# Altium schematic symbol library pyptec-Schlib_jp.SchLib: 316 symbols (part 5 of 7)
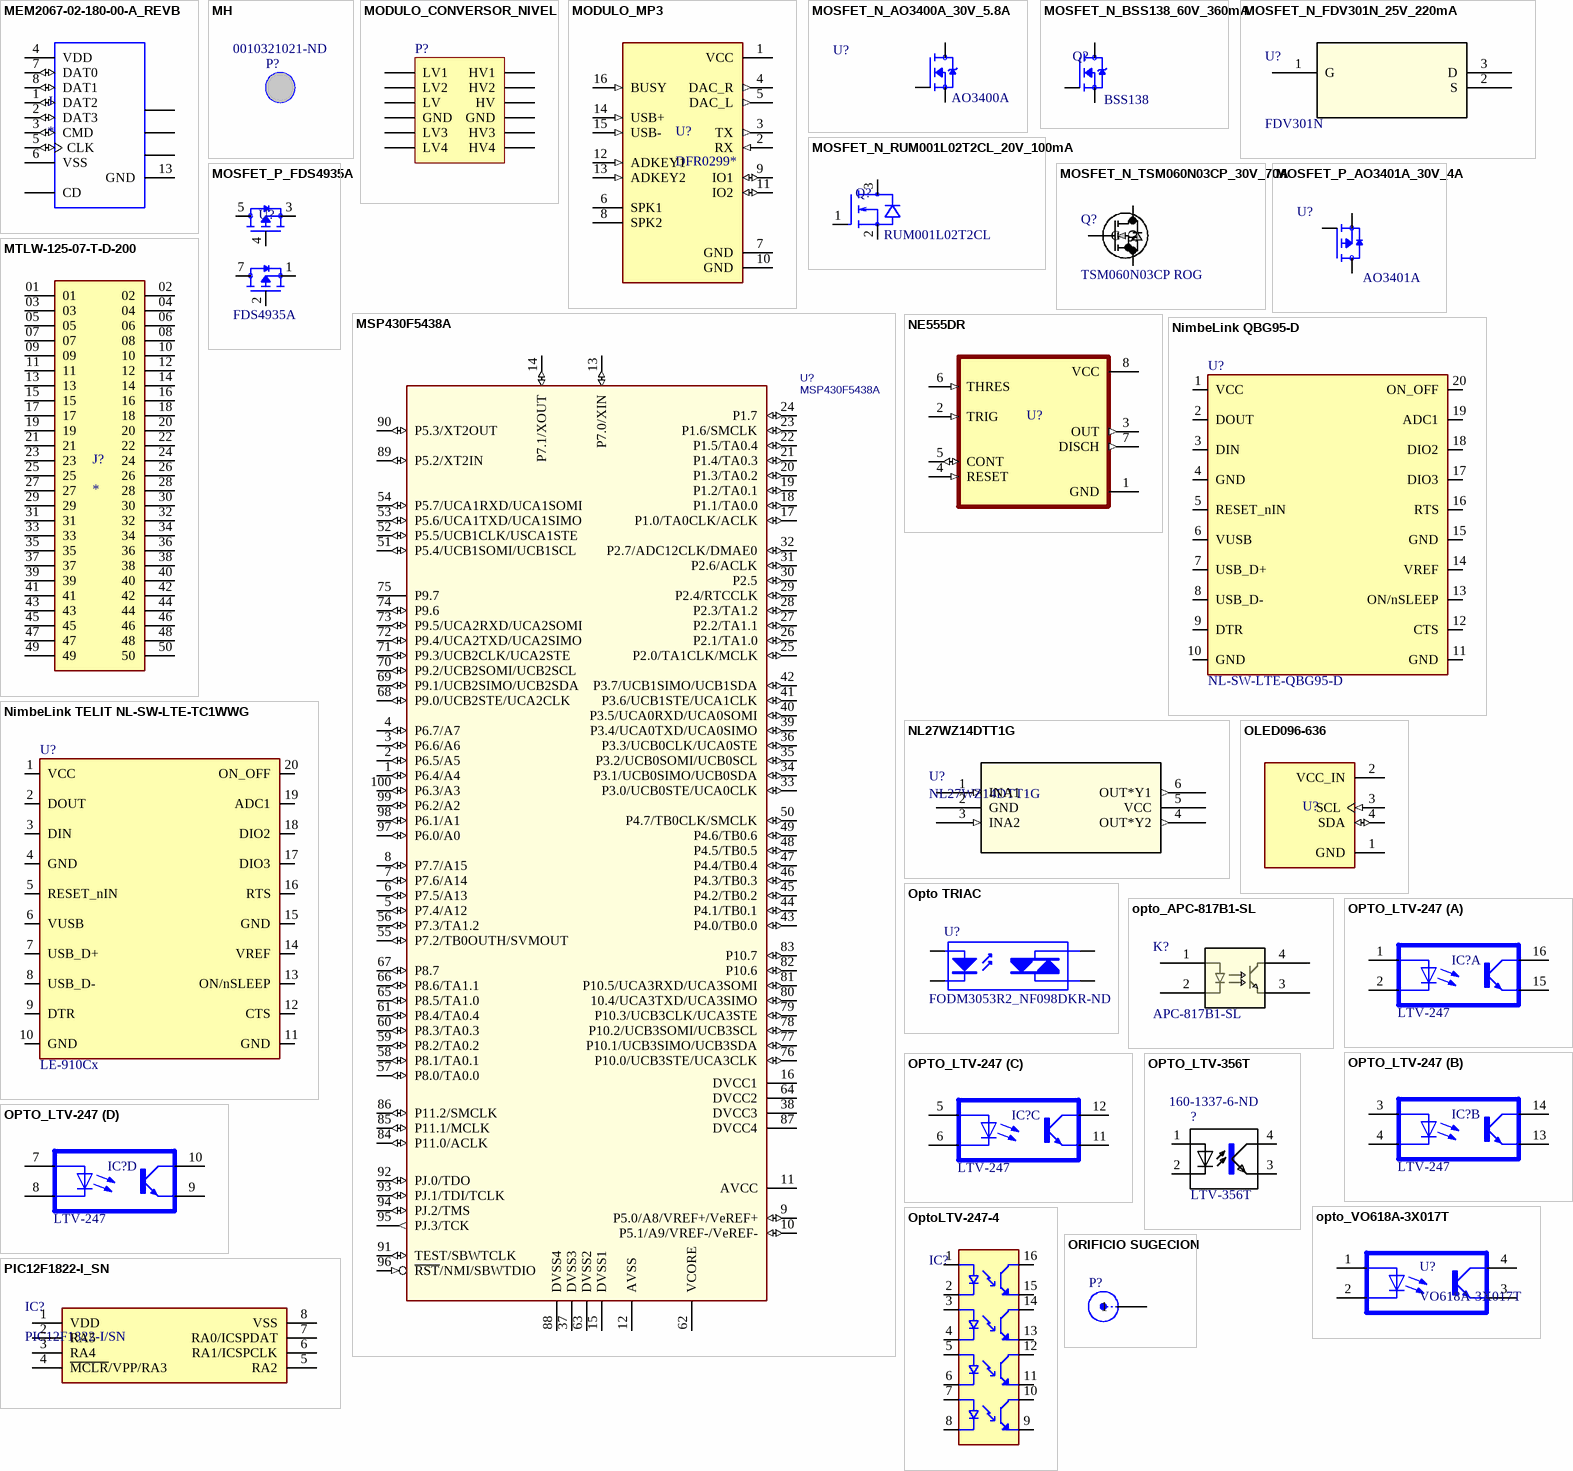
[diagram p14: symbols MEM2067-02-180-00-A_REVB to PIC12F1822-I_SN]

## MSP430F5438A
designator U?
Value: MSP430F5438A; Supplier 1: Digi-Key; Supplier Part Number 1: 296-30513-5-ND
footprint QUAD.50M/100/WG16.00_VQFP100
footprint QUAD.50M/100/WG16.00_VQFP100
pins: 1 P6.4/A4 (io), 2 P6.5/A5 (io), 3 P6.6/A6 (io), 4 P6.7/A7 (io), 5 P7.4/A12 (io), 6 P7.5/A13 (io), 7 P7.6/A14 (io), 8 P7.7/A15 (io), 9 P5.0/A8/VREF+/VeREF+ (io), 10 P5.1/A9/VREF-/VeREF- (io), 11 AVCC (power), 12 AVSS (power), 13 P7.0/XIN (io), 14 P7.1/XOUT (io), 15 DVSS1 (power), 16 DVCC1 (power), 17 P1.0/TA0CLK/ACLK (io), 18 P1.1/TA0.0 (io), 19 P1.2/TA0.1 (io), 20 P1.3/TA0.2 (io), 21 P1.4/TA0.3 (io), 22 P1.5/TA0.4 (io), 23 P1.6/SMCLK (io), 24 P1.7 (io), 25 P2.0/TA1CLK/MCLK (io), 26 P2.1/TA1.0 (io), 27 P2.2/TA1.1 (io), 28 P2.3/TA1.2 (io), 29 P2.4/RTCCLK (io), 30 P2.5 (io), 31 P2.6/ACLK (io), 32 P2.7/ADC12CLK/DMAE0 (io), 33 P3.0/UCB0STE/UCA0CLK (io), 34 P3.1/UCB0SIMO/UCB0SDA (io), 35 P3.2/UCB0SOMI/UCB0SCL (io), 36 P3.3/UCB0CLK/UCA0STE (io), 37 DVSS3 (power), 38 DVCC3 (power), 39 P3.4/UCA0TXD/UCA0SIMO (io), 40 P3.5/UCA0RXD/UCA0SOMI (io), 41 P3.6/UCB1STE/UCA1CLK (io), 42 P3.7/UCB1SIMO/UCB1SDA (io), 43 P4.0/TB0.0 (io), 44 P4.1/TB0.1 (io), 45 P4.2/TB0.2 (io), 46 P4.3/TB0.3 (io), 47 P4.4/TB0.4 (io), 48 P4.5/TB0.5 (io), 49 P4.6/TB0.6 (io), 50 P4.7/TB0CLK/SMCLK (io), 51 P5.4/UCB1SOMI/UCB1SCL (io), 52 P5.5/UCB1CLK/USCA1STE (io), 53 P5.6/UCA1TXD/UCA1SIMO (io), 54 P5.7/UCA1RXD/UCA1SOMI (io), 55 P7.2/TB0OUTH/SVMOUT (io), 56 P7.3/TA1.2 (io), 57 P8.0/TA0.0 (io), 58 P8.1/TA0.1 (io), 59 P8.2/TA0.2 (io), 60 P8.3/TA0.3 (io), 61 P8.4/TA0.4 (io), 62 VCORE (power), 63 DVSS2 (power), 64 DVCC2 (power), 65 P8.5/TA1.0 (io), 66 P8.6/TA1.1 (io), 67 P8.7 (io), 68 P9.0/UCB2STE/UCA2CLK (io), 69 P9.1/UCB2SIMO/UCB2SDA (io), 70 P9.2/UCB2SOMI/UCB2SCL (io), 71 P9.3/UCB2CLK/UCA2STE (io), 72 P9.4/UCA2TXD/UCA2SIMO (io), 73 P9.5/UCA2RXD/UCA2SOMI (io), 74 P9.6 (io), 75 P9.7, 76 P10.0/UCB3STE/UCA3CLK (io), 77 P10.1/UCB3SIMO/UCB3SDA (io), 78 P10.2/UCB3SOMI/UCB3SCL (io), 79 P10.3/UCB3CLK/UCA3STE (io), 80 10.4/UCA3TXD/UCA3SIMO (io), 81 P10.5/UCA3RXD/UCA3SOMI (io), 82 P10.6 (io), 83 P10.7 (io), 84 P11.0/ACLK (io), 85 P11.1/MCLK (io), 86 P11.2/SMCLK (io), 87 DVCC4 (power), 88 DVSS4 (power), 89 P5.2/XT2IN (io), 90 P5.3/XT2OUT (io), 91 TEST/SBWTCLK (io), 92 PJ.0/TDO (io), 93 PJ.1/TDI/TCLK (io), 94 PJ.2/TMS (io), 95 PJ.3/TCK (out), 96 ~{RST}/NMI/SBWTDIO (in), 97 P6.0/A0 (io), 98 P6.1/A1 (io), 99 P6.2/A2 (io), 100 P6.3/A3 (io)

## MTLW-125-07-T-D-200
designator J?
MP: MTLW-125-07-T-D-200; Price: None; Availability: Unavailable; Value: *; Package: None
footprint SAMTEC_MTLW-125-07-T-D-200
pins: 01, 02, 03, 04, 05, 06, 07, 08, 09, 10, 11, 12, 13, 14, 15, 16, 17, 18, 19, 20, 21, 22, 23, 24, 25, 26, 27, 28, 29, 30, 31, 32, 33, 34, 35, 36, 37, 38, 39, 40, 41, 42, 43, 44, 45, 46, 47, 48, 49, 50

## NE555DR
designator U?
555 Type, Timer/Oscillator (Single) IC 100kHz 8-SOIC; Digi_Key_Part_Number: 296-6501-1-ND; MF: {'manufacturer': u'Texas Instruments'}; Package: None; Price: 0,23; MP: NE555DR; Availability: Unavailable; ComponentLink1Description: NE555DR; ComponentLink1URL: https://www.digikey.com/en/products/detail/texas-instruments/NE555DR/372491; Link: https://www.digikey.com/en/products/detail/texas-instruments/NE555DR/372491; Value: NE555DR
footprint SOIC127P599X175-8N
pins: 1 GND (power), 2 TRIG (in), 3 OUT (out), 4 RESET (in), 5 CONT (io), 6 THRES (in), 7 DISCH (out), 8 VCC (power)

## NimbeLink QBG95-D
designator U?, comment NL-SW-LTE-QBG95-D
Celular, navegación BeiDou, Galileo, GLONASS, GNSS, GPS, GSM, LTE Módulos de transceptor RF Antena no incluida, U.FL Orificio pasante; Supplier 1: Digi-Key; Supplier 2: Digi-Key; Link: https://www.digikey.com/es/products/detail/nimbelink-llc/NL-SW-LTE-QBG95-D/21363405; Digi-Key_Part_Number: 1477-NL-SW-LTE-QBG95-D-ND; ComponentLink1Description: NL-SW-LTE-QBG95-D; ComponentLink1URL: https://www.digikey.com/es/products/detail/nimbelink-llc/NL-SW-LTE-QBG95-D/21363405; Price: 76.86
footprint NL-SW-EVDO-V, Cell module (3M, 950510-6102-AR connector)
pins: 1 VCC (power), 2 DOUT, 3 DIN, 4 GND (power), 5 RESET_nIN, 6 VUSB, 7 USB_D+, 8 USB_D-, 9 DTR, 10 GND (power), 11 GND (power), 12 CTS, 13 ON/nSLEEP, 14 VREF, 15 GND (power), 16 RTS, 17 DIO3, 18 DIO2, 19 ADC1, 20 ON_OFF

## NimbeLink TELIT NL-SW-LTE-TC1WWG
designator U?, comment LE-910Cx
Celular, navegación BeiDou, Galileo, GLONASS, GNSS, GPS, GSM, LTE Módulos de transceptor RF Antena no incluida, U.FL Orificio pasante; Value: NL-SW-LTE-TC1WWG; Link: https://www.digikey.com/en/products/detail/nimbelink-llc/NL-SW-LTE-TC1WWG/16592509?s=N4IgTCBcDaICoGECMB1FBxEBdAvkA; Digi-Key_Part_Number: 1477-NL-SW-LTE-TC1WWG-ND; Price: 113.85; ComponentLink1Description: NL-SW-LTE-TC1WWG; ComponentLink1URL: https://www.digikey.com/en/products/detail/nimbelink-llc/NL-SW-LTE-TC1WWG/16592509?s=N4IgTCBcDaICoGECMB1FBxEBdAvkA
footprint NL-SW-EVDO-V, Cell module (3M, 950510-6102-AR connector)
pins: 1 VCC (power), 2 DOUT, 3 DIN, 4 GND (power), 5 RESET_nIN, 6 VUSB, 7 USB_D+, 8 USB_D-, 9 DTR, 10 GND (power), 11 GND (power), 12 CTS, 13 ON/nSLEEP, 14 VREF, 15 GND (power), 16 RTS, 17 DIO3, 18 DIO2, 19 ADC1, 20 ON_OFF

## NL27WZ14DTT1G
designator U?
No Description Available; Mfr_Name: ON Semiconductor; Copyright: Copyright (C) 2021 Ultra Librarian. All rights reserved.; Manufacturer_Part_Number: NL27WZ14DTT1G; Digi-Key_Part_Number_1: 2156-NL27WZ14DTT1G-OS-ND; Digi-Key_Part_Number_2: =NL27WZ14DTT1G; Digi-Key_Part_Number_3: NL27WZ14DTT1GOSCT-ND; Digi-Key_Part_Number_4: NL27WZ14DTT1GOSDKR-ND; Digi-Key_Part_Number_5: NL27WZ14DTT1GOSTR-ND; RefDes: RefDes; Type: DEV
footprint SOT95P275X110-6N
pins: 1 INA1 (in), 2 GND (power), 3 INA2 (in), 4 OUT*Y2 (out), 5 VCC (power), 6 OUT*Y1 (out)

## OLED096-636
designator U?, comment 26095
No táctil Módulos de pantalla - LCD gráfica Transmisivo Blanco OLED, monocromático I2C 0.96" (24.38mm) 128 x 64; ComponentLink1Description: GRAPHIC DISPLAY OLED WHITE 0.96"; ComponentLink1URL: https://www.digikey.com/es/products/detail/universal-solder-electronics-ltd/OLED-128x64-0-96-I2C/16822116; Price: 4,62; Link: https://www.digikey.com/es/products/detail/universal-solder-electronics-ltd/OLED-128x64-0-96-I2C/16822116; Digi_Key_Part_Number: 26095; Value: 26095
footprint MODULE_DM-OLED096-636
pins: 1 GND (power), 2 VCC_IN (power), 3 SCL (in), 4 SDA (io)

## Opto TRIAC
designator U?  Supplier Part Number 1: FODM3053R2_NF098DKR-ND
Opto-Triac; Manufacturer: ON Semiconductor / Fairchild; Manufacturer Part Number: FODM3053R2_NF098; Output Current: 70mA; Reverse Breakdown Voltage: 3V; Number of Channels: 1; Nominal Input Voltage: 1.2V; Max Input Voltage: 1.5V; Forward Current: 60mA; Max Power Dissipation: 300mW; Max Output Voltage: 600V; Isolation Voltage: 3.75kV; Hold Current: 300uA; Approvals: UR; Published: 24-Mar-1999; LatestRevisionDate: 17-Jul-2002; LatestRevisionNote: Re-released for DXP Platform.; PackageReference: NPSIP4A; Publisher: Altium Limited; PackageDescription: SIP; 4 Leads; Body 10 x 11.5 x 7.5 mm (typ); Pitch 2.54 mm; Supplier 1: Digi-Key; Stock 1: 0; Mount: Surface Mount; Case/Package: SMD/SMT; Number of Pins: 4; Weight: 0.155g; Contact Plating: Tin,Matte; Min Operating Temperature: -40°C; Max Operating Temperature: 100°C; Package Quantity: 1; Packaging: Tape and Reel; Forward Voltage: 1.2V; Max Output Current: 70mA; RMS Current (Irms): 70mA; Number of Elements: 1; Power Dissipation: 300mW; Input Current: 60mA; Output Voltage: 600V; Radiation Hardening: No; REACH SVHC: No SVHC; Lead Free: Lead Free; ComponentLink1URL: https://www.verical.com/server-webapp/html/getDatasheet?partID=131175&src-supplier=Verical; ComponentLink1Description: https://www.verical.com/server-webapp/html/getDatasheet?partID=131175&src-supplier=Verical; ComponentLink2URL: https://www.fairchildsemi.com/datasheets/FO/FODM3022_NF098.pdf?src-supplier=Avnet+Europe; ComponentLink2Description: https://www.fairchildsemi.com/datasheets/FO/FODM3022_NF098.pdf?src-supplier=Avnet+Europe; ComponentLink3URL: http://www.farnell.com/datasheets/2041448.pdf?src-supplier=Element14; ComponentLink3Description: http://www.farnell.com/datasheets/2041448.pdf?src-supplier=Element14
footprint SOP127P695X210-4N
pins: 1, 2, 3, 4

## opto_APC-817B1-SL
designator K?, comment APC-817B1-SL
Optoisolator Transistor Output 5000Vrms 1 Channel 4-SMD (SL Type); Digi_Key_Part_Number: 2007-APC-817B1-SLDKR-ND; ComponentLink1Description: opto_APC-817B1-SL; ComponentLink1URL: https://www.digikey.com/en/products/detail/american-bright-optoelectronics-corporation/APC-817B1-SL/16273138; Link: https://www.digikey.com/en/products/detail/american-bright-optoelectronics-corporation/APC-817B1-SL/16273138; Price: 0,43; LCSC Part: C17241799; Mouser Part: 442-APC817B1SL; Price JLCPCB: 0,2; Value: APC-817B1-SL
footprint APC-817xx-SL_AMB-L
pins: 1, 2, 3, 4

## OPTO_LTV-247
designator IC?, comment LTV-247
Optoisolator Transistor Output 3750Vrms 4 Channel 16-SO; Digi_Key_Part_Number: 160-2255-1-ND; ComponentLink1Description: LTV-247; ComponentLink1URL: https://www.digikey.com/en/products/detail/liteon/LTV-247/4307982; Link: https://www.digikey.com/en/products/detail/liteon/LTV-247/4307982; Price: 1,31; LCSC Part: C115451; Mouser Part: 859-LTV-247; Price JLCPCB: 0,39; Value: LTV-247
footprint SOIC127P600X175-16N
part A pins: 1 A, 2 K, 15 E, 16 C
part B pins: 3 A, 4 K, 13 E, 14 C
part C pins: 5 A, 6 K, 11 E, 12 C
part D pins: 7 A, 8 K, 9 E, 10 C

## OPTO_LTV-356T
designator ?, comment LTV-356T  Supplier Part Number 1: 160-1337-6-ND
LTV Series Single Channel 80 V 3750 Vrms Transistor Output Optocoupler SMT DIP-4; Manufacturer: Vishay Lite-On; MF: Lite-On Inc.; Rise Time: 18000ns; Number of Channels: 1; Reverse Breakdown Voltage: 6V; Forward Voltage: 1.4V; Forward Current: 50mA; Max Power Dissipation: 170mW; Collector Emitter Voltage (VCEO): 80V; Collector Emitter Saturation Voltage: 200mV; Isolation Voltage: 3.75kV; Current Transfer Ratio: 600%; Package: SOP-4 Lite-On Inc.; MP: LTV-356T; SnapEDA_Link: https://www.snapeda.com/parts/LTV-356T/Lite-On%20Inc./view-part/?ref=snap; Price: None; Availability: Unavailable; Value: *; Supplier 1: Digi-Key; Manufacturer Part Number: LTV-356T; Stock 1: 158683; Pricing 1: 1=0.54, 10=0.386, 100=0.252, 500=0.18112, 1000=0.14175 (USD); Mount: Surface Mount; Case/Package: SMD/SMT; Number of Pins: 4; Min Operating Temperature: -55°C; Max Operating Temperature: 110°C; Packaging: Tape and Reel; Package Quantity: 750; Max Collector Current: 50mA; Max Output Voltage: 80V; Output Current per Channel: 50mA; Max Input Current: 50mA; Fall Time: 18000ns; Number of Elements: 1; Power Dissipation: 170mW; Number of Circuits: 1; Output Voltage: 80V; Length: 3.6mm; Height: 2mm; Width: 4.4mm; Radiation Hardening: No; Lead Free: Lead Free; ComponentLink1URL: http://uk.rs-online.com/webdocs/0de6/0900766b80de6af0.pdf?src-supplier=RSComponents; ComponentLink1Description: http://uk.rs-online.com/webdocs/0de6/0900766b80de6af0.pdf?src-supplier=RSComponents; ComponentLink2URL: http://www.mouser.com/ds/2/239/LTV-356T%20Series-1308-301539.pdf?src-supplier=Mouser; ComponentLink2Description: http://www.mouser.com/ds/2/239/LTV-356T%20Series-1308-301539.pdf?src-supplier=Mouser; ComponentLink3URL: http://optoelectronics.liteon.com/upload/download/DS70-2001-010/LTV-356T%20series%20201610.pdf?src-supplier=Digi-Key; ComponentLink3Description: http://optoelectronics.liteon.com/upload/download/DS70-2001-010/LTV-356T%20series%20201610.pdf?src-supplier=Digi-Key; ComponentLink4URL: http://www1.futureelectronics.com/doc/LITE-ON/LTV-356T.pdf?src-supplier=Future+Electronics; ComponentLink4Description: http://www1.futureelectronics.com/doc/LITE-ON/LTV-356T.pdf?src-supplier=Future+Electronics; ComponentLink5URL: https://www.verical.com/server-webapp/html/getDatasheet?partID=214494&src-supplier=Verical; ComponentLink5Description: https://www.verical.com/server-webapp/html/getDatasheet?partID=214494&src-supplier=Verical
footprint MINI-FLAT-4
pins: 1, 2, 3, 4

## opto_VO618A-3X017T
designator U?, comment VO618A-3X017T
Optoisolator Transistor Output 5300Vrms 1 Channel 4-SMD; MF: Vishay Semiconductor; Digi-Key_Part_Number: VO618A-3X017TCT-ND; Package: SMD-4 Vishay Semiconductor; Value: *; MP: VO618A-3X017T; ComponentLink1Description: VO618A-3X017T; ComponentLink1URL: https://www.digikey.com/en/products/detail/vishay-semiconductor-opto-division/VO618A-3X017T/2811968; Link: https://www.digikey.com/en/products/detail/vishay-semiconductor-opto-division/VO618A-3X017T/2811968
footprint SOIC254P1016X440-4N
pins: 1 A, 2 K, 3 E, 4 C

## OptoLTV-247-4
designator IC?, comment LTV-247  (value not drawn)
Optoisolator Transistor Output 3750Vrms 4 Channel 16-SO; Digi_Key_Part_Number: 160-2255-1-ND; Mouser Part: 859-LTV-247; ComponentLink1Description: LTV-247; ComponentLink1URL: https://www.digikey.com/en/products/detail/liteon/LTV-247/4307982; Link: https://www.digikey.com/en/products/detail/liteon/LTV-247/4307982; Value: LTV-247; Price: 1,47; LCSC Part: C115451; Price JLCPCB: 0,39
footprint SOIC127P600X175-16N
pins: 1, 2, 3, 4, 5, 6, 7, 8, 9, 10, 11, 12, 13, 14, 15, 16

## ORIFICIO SUGECION
designator P?
SMB Straight Connector
signal-integrity model Connector
footprint ORIFICIO_SUGECION (Connector; SMB Straight)
pins: ?1 1

## PIC12F1822-I_SN
designator IC?, comment PIC12F1822-I/SN
PIC PIC® XLP™ 12F Microcontroladores IC 8 bits 32MHz 3.5KB (2K x 14) Memoria flash 8-SOIC; Manufacturer_Name: Microchip; Digi_Key_Part_Number: PIC12F1822-I/SN-ND; Datasheet Link: https://datasheet.datasheetarchive.com/originals/distributors/Datasheets-DGA25/1725028.pdf; Height: 1.75mm; Manufacturer_Part_Number: PIC12F1822-I/SN; Mouser Part Number: 579-PIC12F1822-I/SN; Mouser Price/Stock: https://www.mouser.co.uk/ProductDetail/Microchip-Technology/PIC12F1822-I-SN?qs=bxUt0k7cytKPFQAMxEP9Kw%3D%3D; Arrow Part Number: PIC12F1822-I/SN; Arrow Price/Stock: https://www.arrow.com/en/products/pic12f1822-isn/microchip-technology?region=nac; ComponentLink1Description: PIC12F1822-I/SN; ComponentLink1URL: https://www.digikey.com/es/products/detail/microchip-technology/PIC12F1822-I-SN/2258574; Link: https://www.digikey.com/es/products/detail/microchip-technology/PIC12F1822-I-SN/2258574; Value: PIC12F1822-I/SN; Price: 1,29
footprint SOIC127P600X175-8N
pins: 1 VDD, 2 RA5, 3 RA4, 4 ~{MCLR}/VPP/RA3, 5 RA2, 6 RA1/ICSPCLK, 7 RA0/ICSPDAT, 8 VSS

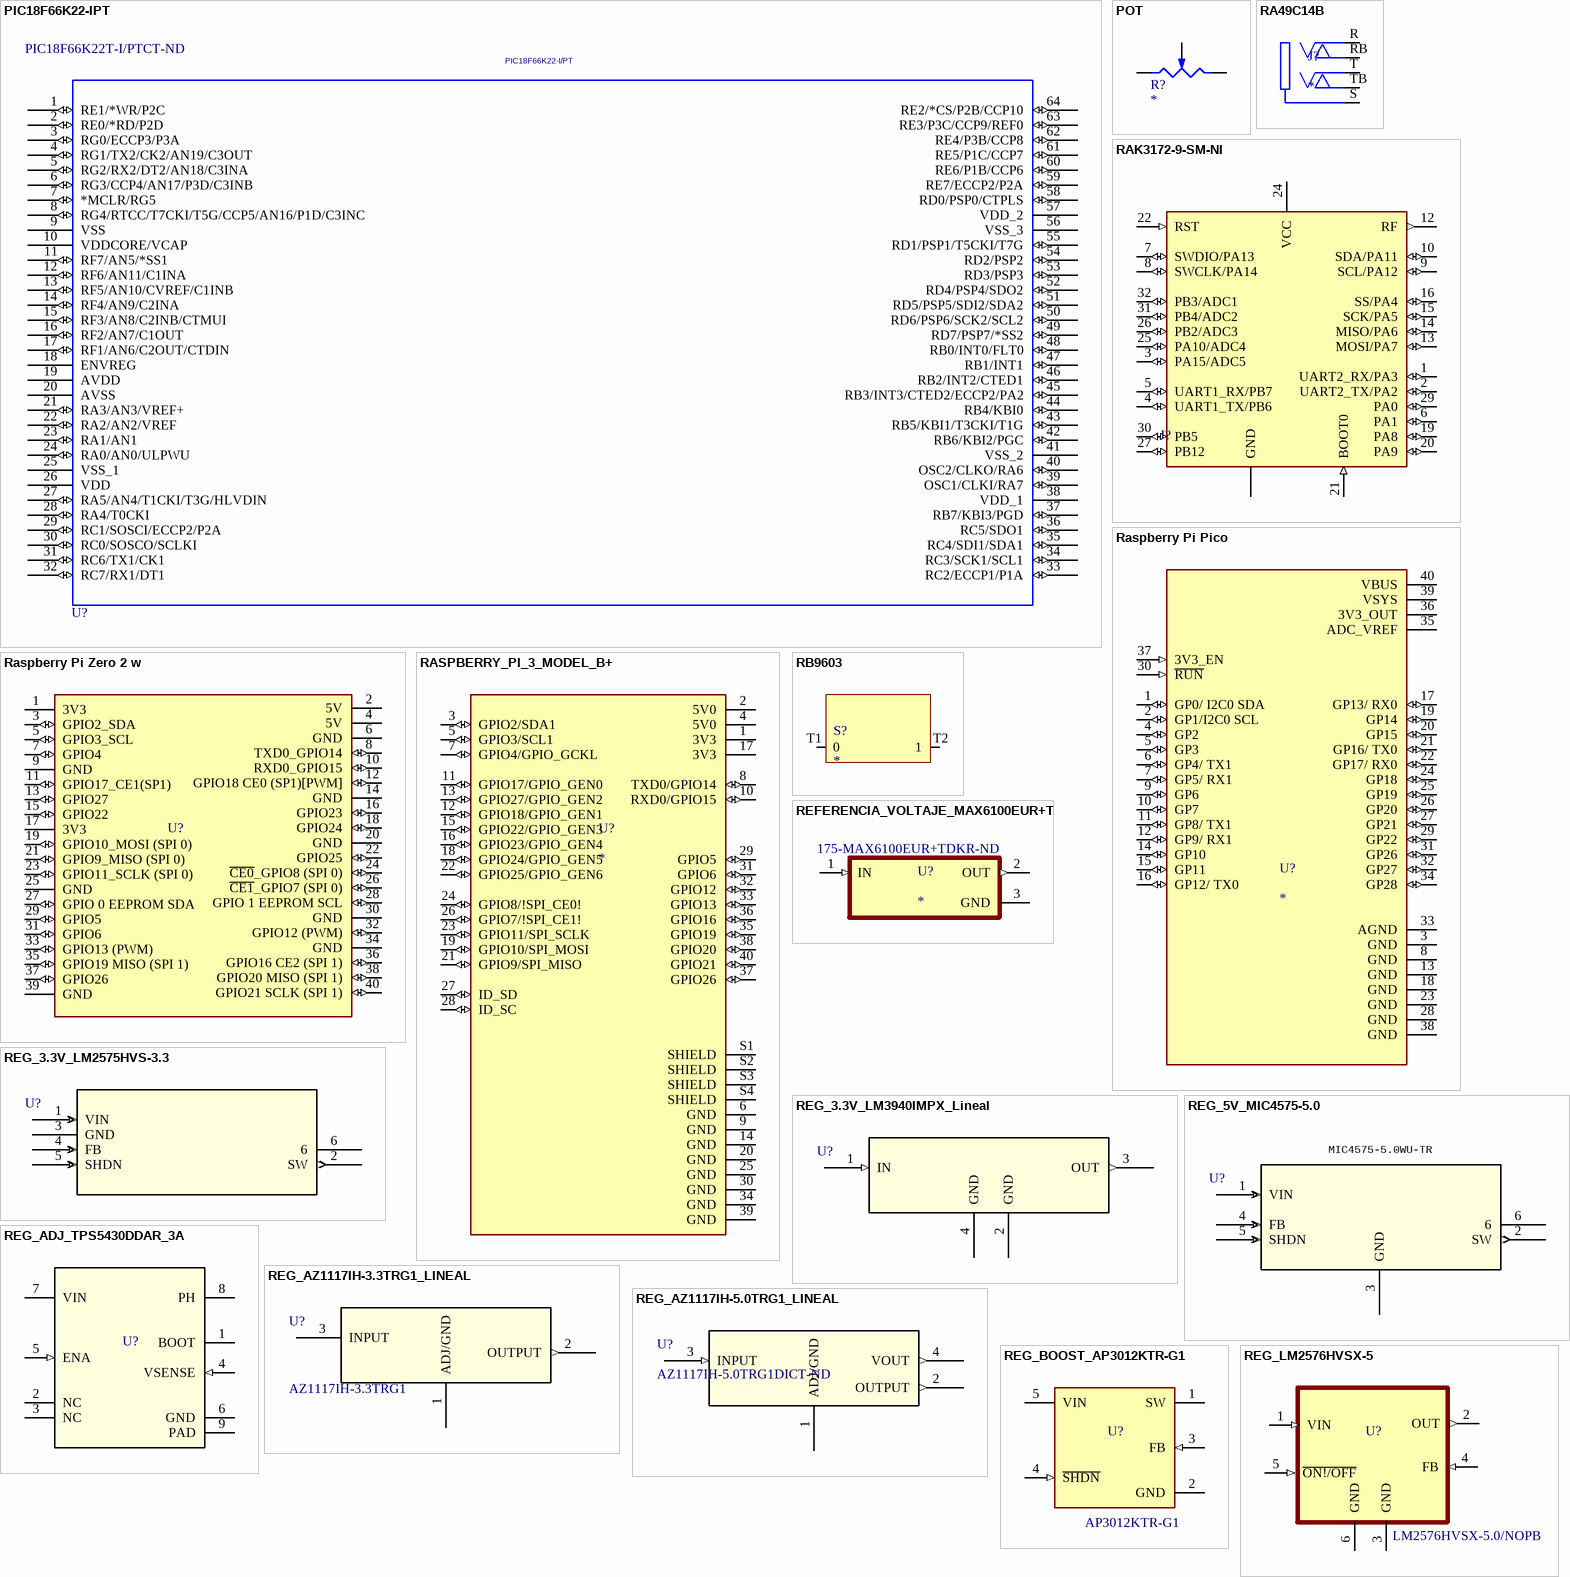
[diagram p7: symbols PIC18F66K22-IPT to REG_LM2576HVSX-5]

## PIC18F66K22-IPT
designator U?, comment < Value >: PIC18F66K22-I/PT  Supplier Part Number 1: PIC18F66K22T-I/PTCT-ND  (hidden comment: Value)
Manufacturer Part Number: PIC18F66K22T-I/PT; OriginalSymbolOrigin: (30000,20000); Vendor: Microchip; Built_By: EMA_UL_Team; DeviceNumbering: Alpha; DeviceDesignator: A; DevicesInPackage: 1; IsHeterogeneous: False; RAM Size: 4KB; Max Power Dissipation: 1W; Interface: I2C,SPI,UART,USART,LIN; Number of Timers/Counters: 11; Number of ADC Channels: 16; Frequency: 64MHz; Max Supply Voltage: 5.5V; Min Supply Voltage: 1.8V; Data Bus Width: 8b; Number of Programmable I/O: 53; Number of SPI Channels: 2; Watchdog Timer: Yes; Memory Type: FLASH; Memory Size: 64KB; Core Architecture: PIC; Manufacturer_Part_Number: PIC18F66K22-I/PT; DevicesInView: 1; PackageName: PIC18F66K22-I/PT; Supplier 1: Digi-Key; Manufacturer: Microchip; Stock 1: 890; Pricing 1: 1=3.77, 25=3.45, 100=3.13 (USD); Mount: Surface Mount; Case/Package: TQFP; Number of Pins: 64; Min Operating Temperature: -40°C; Max Operating Temperature: 85°C; Packaging: Tape and Reel; Max Frequency: 64MHz; Number of I2C Channels: 2; Length: 10mm; Height: 1.05mm; Width: 10mm; Radiation Hardening: No; ComponentLink1URL: http://ww1.microchip.com/downloads/en/DeviceDoc/39960d.pdf?src-supplier=Avnet; ComponentLink1Description: http://ww1.microchip.com/downloads/en/DeviceDoc/39960d.pdf?src-supplier=Avnet; ComponentLink2URL: http://www.microchip.com/mymicrochip/filehandler.aspx?ddocname=en548493&src-supplier=Digi-Key; ComponentLink2Description: http://www.microchip.com/mymicrochip/filehandler.aspx?ddocname=en548493&src-supplier=Digi-Key
footprint QFP50P1200X1200X120-64N
pins: 1 RE1/*WR/P2C (io), 2 RE0/*RD/P2D (io), 3 RG0/ECCP3/P3A (io), 4 RG1/TX2/CK2/AN19/C3OUT (io), 5 RG2/RX2/DT2/AN18/C3INA (io), 6 RG3/CCP4/AN17/P3D/C3INB (io), 7 *MCLR/RG5 (io), 8 RG4/RTCC/T7CKI/T5G/CCP5/AN16/P1D/C3INC (io), 9 VSS (power), 10 VDDCORE/VCAP (power), 11 RF7/AN5/*SS1 (io), 12 RF6/AN11/C1INA (io), 13 RF5/AN10/CVREF/C1INB (io), 14 RF4/AN9/C2INA (io), 15 RF3/AN8/C2INB/CTMUI (io), 16 RF2/AN7/C1OUT (io), 17 RF1/AN6/C2OUT/CTDIN (io), 18 ENVREG (power), 19 AVDD (power), 20 AVSS (power), 21 RA3/AN3/VREF+ (io), 22 RA2/AN2/VREF (io), 23 RA1/AN1 (io), 24 RA0/AN0/ULPWU (io), 25 VSS_1 (power), 26 VDD (power), 27 RA5/AN4/T1CKI/T3G/HLVDIN (io), 28 RA4/T0CKI (io), 29 RC1/SOSCI/ECCP2/P2A (io), 30 RC0/SOSCO/SCLKI (io), 31 RC6/TX1/CK1 (io), 32 RC7/RX1/DT1 (io), 33 RC2/ECCP1/P1A (io), 34 RC3/SCK1/SCL1 (io), 35 RC4/SDI1/SDA1 (io), 36 RC5/SDO1 (io), 37 RB7/KBI3/PGD (io), 38 VDD_1 (power), 39 OSC1/CLKI/RA7 (io), 40 OSC2/CLKO/RA6 (io), 41 VSS_2 (power), 42 RB6/KBI2/PGC (io), 43 RB5/KBI1/T3CKI/T1G (io), 44 RB4/KBI0 (io), 45 RB3/INT3/CTED2/ECCP2/PA2 (io), 46 RB2/INT2/CTED1 (io), 47 RB1/INT1 (io), 48 RB0/INT0/FLT0 (io), 49 RD7/PSP7/*SS2 (io), 50 RD6/PSP6/SCK2/SCL2 (io), 51 RD5/PSP5/SDI2/SDA2 (io), 52 RD4/PSP4/SDO2 (io), 53 RD3/PSP3 (io), 54 RD2/PSP2 (io), 55 RD1/PSP1/T5CKI/T7G (io), 56 VSS_3 (power), 57 VDD_2 (power), 58 RD0/PSP0/CTPLS (io), 59 RE7/ECCP2/P2A (io), 60 RE6/P1B/CCP6 (io), 61 RE5/P1C/CCP7 (io), 62 RE4/P3B/CCP8 (io), 63 RE3/P3C/CCP9/REF0 (io), 64 RE2/*CS/P2B/CCP10 (io)

## POT
designator R?
footprint POT
pins: 1, 2, 3

## RA49C14B
designator J?
Conn 1/4" Phone Jack F 3 POS 7.62mm Solder RA Thru-Hole 6 Terminal 1 Port; MP: RA49C14B; Package: None; Price: None; Value: *; Availability: Unavailable
footprint SWITCHCRAFT_RA49C14B
pins: R, RB, S, T, TB

## RAK3172-9-SM-NI
designator J?
RAK3172 is a low-power long-range transceiver module based on the STM32WLE5CC chip. It provides an easy-to-use, small-size, low-power solution for long range wireless data applicationsRF IC Transceiver LoRaWAN 915MHz, 920MHz, 923MHz 2V ~ 3.6V Supply, Without I-PEX Connector; Digi_Key_Part_Number: 4735-RAK3172-9-SM-NICT-ND; Price: None; Link: https://www.digikey.com/en/products/detail/rakwireless-technology-limited/RAK3172-9-SM-NI/17138034; LCSC Part: C19723905; Mouser Part: *; Price JLCPCB: 7,35; ComponentLink1Description: MODULE FOR LORAWAN RAK3172 BASED; ComponentLink1URL: https://www.digikey.com/en/products/detail/rakwireless-technology-limited/RAK3172-9-SM-NI/17138034; Value: RAK3172-9-SM-NI
footprint RAK3172
pins: 1 UART2_RX/PA3 (io), 2 UART2_TX/PA2 (io), 3 PA15/ADC5 (io), 4 UART1_TX/PB6 (io), 5 UART1_RX/PB7 (io), 6 PA1 (io), 7 SWDIO/PA13 (io), 8 SWCLK/PA14 (io), 9 SCL/PA12 (io), 10 SDA/PA11 (io), 11 GND (power), 12 RF (out), 13 MOSI/PA7 (io), 14 MISO/PA6 (io), 15 SCK/PA5 (io), 16 SS/PA4 (io), 17 GND (power), 18 GND (power), 19 PA8 (io), 20 PA9 (io), 21 BOOT0 (in), 22 RST (in), 23 GND (power), 24 VCC (power), 25 PA10/ADC4 (io), 26 PB2/ADC3 (io), 27 PB12 (io), 28 GND (power), 29 PA0 (io), 30 PB5 (io), 31 PB4/ADC2 (io), 32 PB3/ADC1 (io)

## Raspberry Pi Pico
designator U?
footprint RaspberryPico_Header
pins: 1 GP0/ I2C0 SDA (io), 2 GP1/I2C0 SCL (io), 3 GND (power), 4 GP2 (io), 5 GP3 (io), 6 GP4/ TX1 (io), 7 GP5/ RX1 (io), 8 GND (power), 9 GP6 (io), 10 GP7 (io), 11 GP8/ TX1 (io), 12 GP9/ RX1 (io), 13 GND (power), 14 GP10 (io), 15 GP11 (io), 16 GP12/ TX0 (io), 17  GP13/ RX0 (io), 18 GND (power), 19 GP14 (io), 20 GP15 (io), 21 GP16/ TX0 (io), 22 GP17/ RX0 (io), 23 GND (power), 24 GP18 (io), 25 GP19 (io), 26 GP20 (io), 27 GP21 (io), 28 GND (power), 29 GP22 (io), 30 ~{RUN} (in), 31 GP26 (io), 32 GP27 (io), 33 AGND (power), 34 GP28 (io), 35 ADC_VREF (power), 36 3V3_OUT (power), 37 3V3_EN (in), 38 GND (power), 39 VSYS (power), 40 VBUS (power)

## Raspberry Pi Zero 2 w
designator U?, comment 2648-SC1146-ND  (value not drawn)
Computadora de placa única 1GHz 4 Núcleo 512MB RAM Broadcom BCM2710A1 Arm Cortex-A53; MF: Adafruit Industries; MP: ADA3708; SnapEDA_Link: https://www.snapeda.com/parts/ADA3708/Adafruit+Industries+LLC/view-part/?ref=snap; Package: None; Value: 2648-SC1146-ND; Check_prices: https://www.snapeda.com/parts/ADA3708/Adafruit+Industries+LLC/view-part/?ref=eda; ComponentLink1Description: Raspberry Pi Zero 2w; ComponentLink1URL: https://www.digikey.com/es/products/detail/raspberry-pi/SC1146/15298147; Link: https://www.digikey.com/es/products/detail/raspberry-pi/SC1146/15298147; Digi_Key_Part_Number: 2648-SC1146-ND
footprint RASPBERRY PI 2 W
pins: 1 3V3 (power), 2 5V (power), 3 GPIO2_SDA (io), 4 5V (power), 5 GPIO3_SCL (io), 6 GND (power), 7 GPIO4 (io), 8 TXD0_GPIO14 (io), 9 GND (power), 10 RXD0_GPIO15 (io), 11 GPIO17_CE1(SP1) (io), 12 GPIO18 CE0 (SP1)[PWM] (io), 13 GPIO27 (io), 14 GND (power), 15 GPIO22 (io), 16 GPIO23 (io), 17 3V3 (power), 18 GPIO24 (io), 19 GPIO10_MOSI (SPI 0) (io), 20 GND (power), 21 GPIO9_MISO (SPI 0) (io), 22 GPIO25 (io), 23 GPIO11_SCLK (SPI 0) (io), 24 ~{CE0}_GPIO8 (SPI 0) (io), 25 GND (power), 26 ~{CE1}_GPIO7 (SPI 0) (io), 27 GPIO 0 EEPROM SDA (io), 28 GPIO 1 EEPROM SCL (io), 29 GPIO5 (io), 30 GND (power), 31 GPIO6 (io), 32 GPIO12 (PWM) (io), 33 GPIO13 (PWM) (io), 34 GND (power), 35 GPIO19 MISO (SPI 1) (io), 36 GPIO16 CE2 (SPI 1) (io), 37 GPIO26 (io), 38 GPIO20 MISO (SPI 1) (io), 39 GND (power), 40 GPIO21 SCLK (SPI 1) (io)

## RASPBERRY_PI_3_MODEL_B+
designator U?
BCM2837B0 Raspberry Pi 3 Model B+ - ARMÂ® CortexÂ®-A53, VideoCore MPU Embedded Evaluation Board; MP: RASPBERRY PI 3 MODEL B+; SnapEDA_Link: https://www.snapeda.com/parts/RASPBERRY%20PI%203%20MODEL%20B+/Raspberry%20Pi/view-part/4299836/?ref=snap; Package: Raspberry Pi; MF: Raspberry Pi; Value: *; Digi-Key_Part_Number: 1690-1025-ND; Check_prices: https://www.snapeda.com/parts/RASPBERRY%20PI%203%20MODEL%20B+/Raspberry%20Pi/view-part/4299836/?ref=eda
footprint MODULE_RASPBERRY_PI_3_MODEL_B+
pins: 1 3V3 (power), 2 5V0 (power), 3 GPIO2/SDA1 (io), 4 5V0 (power), 5 GPIO3/SCL1 (io), 6 GND (power), 7 GPIO4/GPIO_GCKL (io), 8 TXD0/GPIO14 (io), 9 GND (power), 10 RXD0/GPIO15 (io), 11 GPIO17/GPIO_GEN0 (io), 12 GPIO18/GPIO_GEN1 (io), 13 GPIO27/GPIO_GEN2 (io), 14 GND (power), 15 GPIO22/GPIO_GEN3 (io), 16 GPIO23/GPIO_GEN4 (io), 17 3V3 (power), 18 GPIO24/GPIO_GEN5 (io), 19 GPIO10/SPI_MOSI (io), 20 GND (power), 21 GPIO9/SPI_MISO (io), 22 GPIO25/GPIO_GEN6 (io), 23 GPIO11/SPI_SCLK (io), 24 GPIO8/!SPI_CE0! (io), 25 GND (power), 26 GPIO7/!SPI_CE1! (io), 27 ID_SD (io), 28 ID_SC (io), 29 GPIO5 (io), 30 GND (power), 31 GPIO6 (io), 32 GPIO12 (io), 33 GPIO13 (io), 34 GND (power), 35 GPIO19 (io), 36 GPIO16 (io), 37 GPIO26 (io), 38 GPIO20 (io), 39 GND (power), 40 GPIO21 (io), S1 SHIELD (power), S2 SHIELD (power), S3 SHIELD (power), S4 SHIELD (power)

## RB9603
designator S?
footprint RB9603 (Modulo Satelital)
pins: T1 0, T2 1

## REFERENCIA_VOLTAJE_MAX6100EUR+T
designator U?  Supplier Part Number 1: 175-MAX6100EUR+TDKR-ND
Serie Referencia de voltaje IC ±0.4% SOT-23-3; Digi_Key_Part_Number: 175-MAX6100EUR+TCT-ND; MF: {'manufacturer': u'Analog Devices'}; Value: MAX6100EUR; MP: MAX6100EUR+T; Package: None; Availability: Unavailable; Price: None; Supplier 1: Digi-Key; Link: https://www.digikey.com/es/products/detail/MAX6100EUR%2BT/175-MAX6100EUR%2BTDKR-ND/12144231?utm_campaign=buynow&utm_medium=aggregator&curr=usd&utm_source=octopart; ComponentLink1Description: IC VREF SERIES 0.4% SOT23-3; ComponentLink1URL: https://www.digikey.com/es/products/detail/analog-devices-inc-maxim-integrated/max6106eur-t/1518210
footprint SOT95P237X112-3N
pins: 1 IN (in), 2 OUT (out), 3 GND (power)

## REG_3.3V_LM2575HVS-3.3
designator U?, comment LM2575HVS-3.3/NOPB-ND  (value not drawn)
Buck Switching Regulator IC Positive Fixed 3.3V 1 Output 1A TO-263-6, D²Pak (5 Leads + Tab), TO-263BA; Manufacturer_Part_Number: MIC4575-5.0WU-TR; Manufacturer: Microchip Micrel; Vendor: Microchip; Built_By: EMA_Jessica; Output Voltage: 5V; Number of Outputs: 1; Output Current: 1.7A; Efficiency: 77%; Min Input Voltage: 4V; Max Input Voltage: 24V; Switching Frequency: 200kHz; Synchronous Rectifier: No; Topology: Buck-Boost; Copyright: Copyright (C) 2018 Accelerated Designs. All rights reserved; RefDes: RefDes; Type: DEV; Value: Value; Manufacturer Part Number: MIC4575-5.0WU-TR; Mount: Surface Mount; Case/Package: TO-263-5; Min Operating Temperature: -40°C; Max Operating Temperature: 85°C; Max Output Current: 1A; Packaging: Tape and Reel; Package Quantity: 750; Min Output Voltage: 5V; Output Type: Fixed; Output Configuration: Positive; Lead Free: Lead Free; Digi_Key_Part_Number: LM2575HVS-3.3/NOPB-ND; Link: https://www.digikey.com/en/products/detail/texas-instruments/LM2575HVS-3-3-NOPB/363637; ComponentLink3Description: IC REG MULTI CONFG 3.3V D2PAK-5; ComponentLink3URL: https://www.digikey.com/es/products/detail/onsemi/LM2576D2TR4-3-3G/2120632
footprint TO-263-5-M
pins: 1 VIN (in), 2 SW (out), 3 GND (power), 4 FB (in), 5 SHDN (in), 6

## REG_3.3V_LM3940IMPX_Lineal
designator U?, comment LM3940IMPX-3.3/NOPBCT-ND  (value not drawn)
Linear Voltage Regulator IC Positive Fixed 1 Output 1A SOT-223-4; Vendor: Texas Instruments; Built_By: EMA_UL_Team; Manufacturer_Part_Number: LM3940IMPX-3.3/NOPB; Copyright: Copyright (C) 2018 Accelerated Designs. All rights reserved; RefDes: RefDes; Type: DEV; Value: Value; ComponentLink1Description: LM3940; ComponentLink1URL: https://www.digikey.com/es/products/detail/texas-instruments/LM3940IMPX-3-3/3697375; Link: https://www.digikey.com/en/products/detail/texas-instruments/LM3940IMPX-3-3-NOPB/367097; Digi_Key_Part_Number: LM3940IMPX-3.3/NOPBCT-ND
footprint MP04A
footprint MP04A-M
pins: 1 IN (in), 2 GND, 3 OUT (out), 4 GND

## REG_5V_MIC4575-5.0
designator U?, comment MIC4575-5.0WU-TR
Buck, Buck-Boost Switching Regulator IC Positive Fixed 5V 1 Output 1.7A (Switch) TO-263-6, D²Pak (5 Leads + Tab), TO-263BA; Manufacturer: Microchip Micrel; Digi_Key_Part_Number: 576-1549-1-ND; Vendor: Microchip; Built_By: EMA_Jessica; Max Output Current: 1A; Number of Outputs: 1; Efficiency: 77%; Min Input Voltage: 4V; Max Input Voltage: 24V; Switching Frequency: 200kHz; Synchronous Rectifier: No; Copyright: Copyright (C) 2018 Accelerated Designs. All rights reserved; RefDes: RefDes; Type: DEV; Supplier 1: Digi-Key; Manufacturer Part Number: MIC4575-5.0WU-TR; Stock 1: 0; Pricing 1: 750=2.28, 5250=1.425 (USD); Mount: Surface Mount; Case/Package: TO-263-5; Min Operating Temperature: -40°C; Max Operating Temperature: 85°C; Output Voltage: 5V; Packaging: Tape and Reel; Package Quantity: 750; Output Current: 1.7A; Min Output Voltage: 5V; Topology: Buck-Boost; Output Type: Fixed; Output Configuration: Positive; Lead Free: Lead Free; Link: https://www.digikey.com/en/products/detail/microchip-technology/MIC4575-5-0WU-TR/1029995?s=N4IgTCBcDaIAQFkCSBhALAVgOwYLQYDoAGAdQFVcAVAJRAF0BfIA; ComponentLink1Description: MIC4575-5.0WU-TR; ComponentLink1URL: https://www.digikey.com/en/products/detail/microchip-technology/mic4575-5-0wu-tr/1029995; Manufacturer_Part_Number: MIC4575-5.0WU-TR; Supplier Part Number 1: 576-1549-2-ND; Value: MIC4575-5.0WU-TR
footprint TO-263-5-M
pins: 1 VIN (in), 2 SW (out), 3 GND (power), 4 FB (in), 5 SHDN (in), 6

## REG_ADJ_TPS5430DDAR_3A
designator U?, comment TPS5430DDAR  (value not drawn)
Buck Switching Regulator IC Positive Adjustable 1.221V 1 Output 3A 8-PowerSOIC (0.154", 3.90mm Width); Digi_Key_Part_Number: 296-26988-1-ND; ComponentLink1Description: IC REG BUCK ADJ 3A 8SOPWR; ComponentLink1URL: https://www.digikey.com/en/products/detail/texas-instruments/TPS5430DDAR/1671816; Link: https://www.digikey.com/en/products/detail/texas-instruments/TPS5430DDAR/1671816; Value: TPS5430DDAR; Price: 3,87; LCSC Part: C9864; Mouser Part: 595-TPS5430DDAR; Price JLCPCB: 0,29
footprint DDA0008J
pins: 1 BOOT (power), 2 NC, 3 NC, 4 VSENSE (in), 5 ENA (in), 6 GND (power), 7 VIN (power), 8 PH (power), 9 PAD (power)

## REG_AZ1117IH-3.3TRG1_LINEAL
designator U?, comment AZ1117IH-3.3TRG1
Linear Voltage Regulator IC Positive Fixed 1 Output 1A SOT-223-3; Digi_Key_Part_Number: AZ1117IH-3.3TRG1DICT-ND; ComponentLink1Description: AZ1117IH-3.3TRG1; ComponentLink1URL: https://www.digikey.com/en/products/detail/diodes-incorporated/AZ1117IH-3-3TRG1/5699672; Link: https://www.digikey.com/en/products/detail/diodes-incorporated/AZ1117IH-3-3TRG1/5699672; Price: 0,58; LCSC Part: C108495; Mouser Part: 621-AZ1117IH-3.3TRG1; Price JLCPCB: 0,11; Value: AZ1117IH-3.3TRG1
footprint SOT223_AZ1117I_6P5X3P5_DIO-M
pins: 1 ADJ/GND (power), 2 OUTPUT (out), 3 INPUT

## REG_AZ1117IH-5.0TRG1_LINEAL
designator U?, comment AZ1117IH-5.0TRG1DICT-ND
Linear Voltage Regulator IC Positive Fixed 1 Output 1A SOT-223-3; Mfr_Name: Diodes Inc; RefDes: RefDes; Type: Type; ComponentLink1Description: AZ1117IH-5.0TRG1; ComponentLink1URL: https://www.digikey.com/en/products/detail/diodes-incorporated/AZ1117IH-5-0TRG1/5699673; Link: https://www.digikey.com/en/products/detail/diodes-incorporated/AZ1117IH-5-0TRG1/5699673; Digi_Key_Part_Number: AZ1117IH-5.0TRG1DICT-ND; Value: AZ1117IH-5.0TRG1
footprint SOT223-5_DIO-M
pins: 1 ADJ/GND (power), 2 OUTPUT (out), 3 INPUT (in), 4 VOUT (out)

## REG_BOOST_AP3012KTR-G1
designator U?, comment AP3012KTR-G1
Boost Switching Regulator IC Positive Adjustable 1.25V 1 Output 500mA (Switch) SC-74A, SOT-753; Digi_Key_Part_Number: AP3012KTR-G1DICT-ND; Price: 0,29; ComponentLink1Description: IC REG BOOST ADJ 500MA SOT23-5; ComponentLink1URL: https://www.digikey.com/en/products/detail/diodes-incorporated/AP3012KTR-G1/4470846; Link: https://www.digikey.com/en/products/detail/diodes-incorporated/AP3012KTR-G1/4470846; LCSC Part: C102618; Mouser Part: 621-AP3012KTR-G1; Price JLCPCB: 0,11; Value: AP3012KTR-G1
footprint SOT95P280X145-5N
pins: 1 SW, 2 GND (power), 3 FB (in), 4 ~{SHDN} (in), 5 VIN (power)

## REG_LM2576HVSX-5
designator U?, comment LM2576HVSX-5.0/NOPB
Reductor Reguladores de conmutación IC Positivo Fija 5V 1 Salida 3A TO-263-6, D2PAK (5 conductores + pestaña), TO-263CA; Digi_Key_Part_Number: LM2576HVSX-5.0/NOPBCT-ND; Price: 7,26; Link: https://www.digikey.com/es/products/detail/texas-instruments/LM2576HVSX-5-0-NOPB/366788; JLCPCB Part: C41906; ComponentLink1Description: IC REG BUCK 5V 3A TO263; ComponentLink1URL: https://www.digikey.com/es/products/detail/texas-instruments/LM2576HVSX-5-0-NOPB/366788; Value: LM2576HVSX-5.0/NOPB
footprint TO-263-5-M
pins: 1 VIN (in), 2 OUT (out), 3 GND (power), 4 FB (in), 5 ~{ON!/OFF} (in), 6 GND (power)

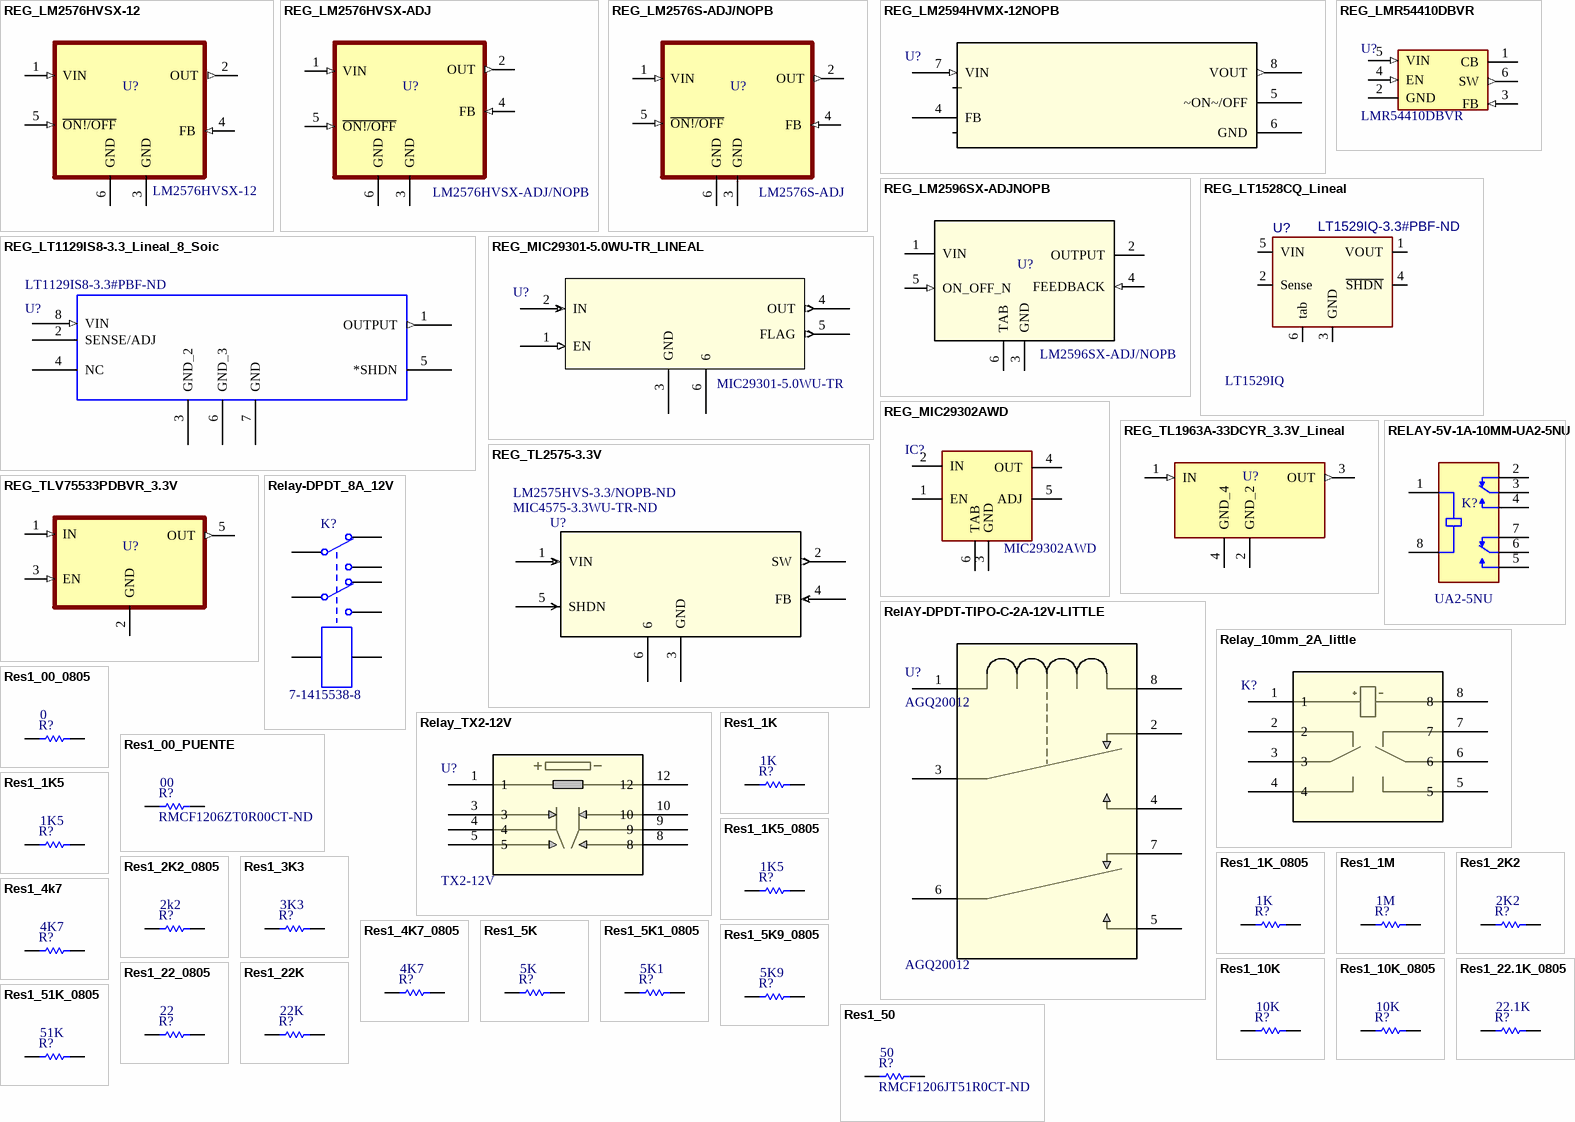
[diagram p8: symbols REG_LM2576HVSX-12 to Res1_51K_0805]

## REG_LM2576HVSX-12
designator U?, comment LM2576HVSX-12
Reductor Reguladores de conmutación IC Positivo Fija 12V 1 Salida 3A TO-263-6, D2PAK (5 conductores + pestaña), TO-263CA; Digi_Key_Part_Number: 296-35394-1-ND; Price: 7,26; Link: https://www.digikey.com/es/products/detail/texas-instruments/LM2576HVSX-12-NOPB/366785; LCSC Part: C18197844; Price JLCPCB: 0,92; Mouser Part: 926-LM2576HVSX12NOPB; ComponentLink1Description: IC REG BUCK 12V 3A TO263; ComponentLink1URL: https://www.digikey.com/es/products/detail/texas-instruments/LM2576HVSX-12-NOPB/366785; Value: LM2576HVSX-12
footprint TO-263-5-M
pins: 1 VIN (in), 2 OUT (out), 3 GND (power), 4 FB (in), 5 ~{ON!/OFF} (in), 6 GND (power)

## REG_LM2576HVSX-ADJ
designator U?, comment LM2576HVSX-ADJ/NOPB
Reductor Reguladores de conmutación IC Positivo Ajuste 1.23V 1 Salida 3A TO-263-6, D2PAK (5 conductores + pestaña), TO-263CA; Digi_Key_Part_Number: LM2576HVSX-ADJ/NOPBCT-ND; Price: 7,26; Link: https://www.digikey.com/es/products/detail/texas-instruments/LM2576HVSX-ADJ-NOPB/3526858; ComponentLink1Description: IC REG BUCK ADJ 3A TO263; ComponentLink1URL: https://www.digikey.com/es/products/detail/texas-instruments/LM2576HVSX-ADJ-NOPB/3526858; LCSC Part: C347423; Mouser Part: 926-LM2596S-ADJ/NOPB; Price JLCPCB: 0,57; Value: LM2576HVSX-ADJ/NOPB
footprint TO-263-5-M
pins: 1 VIN (in), 2 OUT (out), 3 GND (power), 4 FB (in), 5 ~{ON!/OFF} (in), 6 GND (power)

## REG_LM2576S-ADJ/NOPB
designator U?, comment value LM2576S-ADJ  (hidden comment: LM2576S-ADJ/NOPB)
Buck Switching Regulator IC Positive Adjustable 1 Output 3A TO-263-6, D2PAK (5 Leads + Tab), TO-263BA; Digi_Key_Part_Number: LM2576S-ADJ/NOPB-ND; MF: Texas Instruments; Package: TO-263-5 Texas Instruments; DigiKey-Purchase-URL: https://snapeda.com/shop?store=DigiKey&id=214896; MP: LM2576S-ADJ/NOPB; Price: None; Texas_Instruments-Purchase-URL: https://snapeda.com/shop?store=Texas+Instruments&id=214896; Availability: Unavailable; SnapEDA_Link: https://www.snapeda.com/parts/LM2576S-ADJ/NOPB/Texas%20Instruments/view-part/214896/?ref=snap; Mouser-Purchase-URL: https://snapeda.com/shop?store=Mouser&id=214896; Link: https://www.digikey.com/en/products/detail/texas-instruments/LM2576S-ADJ-NOPB/363655?s=N4IgTCBcDaIDIFkwFYDsA2AygWgIIBEApAegDkB5ABQCEQBdAXyA; ComponentLink1Description: LM2576S-ADJ; ComponentLink1URL: https://www.digikey.com/en/products/detail/umw/LM2576S-ADJ/16842220
footprint TO-263-5-M
pins: 1 VIN (in), 2 OUT (out), 3 GND (power), 4 FB (in), 5 ~{ON!/OFF} (in), 6 GND (power)

## REG_LM2594HVMX-12NOPB
designator U?, comment LM2594HVMX-12/NOPB  (value not drawn)
Reductor Reguladores de conmutación IC Positivo Fija 12V 1 Salida 500mA 8-SOIC (0.154", 3.90mm de ancho); Digi_Key_Part_Number: 296-35397-1-ND; ComponentLink1Description: IC REG BUCK 12V 500MA 8SOIC; ComponentLink1URL: https://www.digikey.com/es/products/detail/texas-instruments/LM2594HVMX-12-NOPB/366820; Link: https://www.digikey.com/es/products/detail/texas-instruments/LM2594HVMX-12-NOPB/366820; Value: *; Price: 5,29; LCSC Part: *; Mouser Part: *; Price JLCPCB: *
footprint M08A
pins: 1 NC, 2 NC, 3 NC, 4 FB, 5 ~ON~/OFF, 6 GND, 7 VIN (in), 8 VOUT (out)

## REG_LM2596SX-ADJNOPB
designator U?, comment LM2596SX-ADJ/NOPB
Buck Switching Regulator IC Positive Adjustable 1.2V 1 Output 3A TO-263-6, D2PAK (5 Leads + Tab), TO-263BA; Digi_Key_Part_Number: 296-35399-1-ND; ComponentLink1Description: LM2596SX-ADJ/NOPB; ComponentLink1URL: https://www.digikey.com/en/products/detail/texas-instruments/LM2596SX-ADJ-NOPB/366833; Link: https://www.digikey.com/en/products/detail/texas-instruments/LM2596SX-ADJ-NOPB/366833; Price: 5,76; JLCPCB Part: C29781; Value: LM2596SX-ADJ/NOPB
footprint TO-263-5-M
pins: 1 VIN (power), 2 OUTPUT (power), 3 GND (power), 4 FEEDBACK (in), 5 ON_OFF_N (in), 6 TAB (power)

## REG_LMR54410DBVR
designator U?, comment LMR54410DBVR
Buck Switching Regulator IC Positive Adjustable 0.8V 1 Output 1A SOT-23-6; Digi_Key_Part_Number: 296-LMR54410DBVRCT-ND; ComponentLink1Description: IC REG BUCK ADJ 1A SOT23-6; ComponentLink1URL: https://www.digikey.com/en/products/detail/texas-instruments/LMR54410DBVR/15853926; Link: https://www.digikey.com/en/products/detail/texas-instruments/LMR54410DBVR/15853926; Price: 1,06; LCSC Part: C3200265; Mouser Part: *; Price JLCPCB: 0,38; Value: LMR54410DBVR
footprint SOT95P280X145-6N
pins: 1 CB (power), 2 GND (power), 3 FB (in), 4 EN (in), 5 VIN (in), 6 SW (out)

## REG_LT1129IS8-3.3_Lineal_8_Soic
designator U?, comment Supplier Part Number 1: LT1129IS8-3.3#PBF-ND  (hidden comment: MIC5209-3.3YM-CT-ND)
PMIC - reguladores de voltaje lineal Positivo Fija 1 Salida 700mA 8-SO; Value: LT1129IS8-3.3; MF: Linear Technology/Analog; MP: LT1129IS8-3.3#PBF; Price: None; Package: SOIC-8 Linear Technology; Purchase-URL: https://pricing.snapeda.com/search/part/LT1129IS8-3.3#PBF/?ref=eda; SnapEDA_Link: https://www.snapeda.com/parts/LT1129IS8-3.3%23PBF/Analog%20Devices/view-part/1215396/?ref=snap; Availability: Good; Check_prices: https://www.snapeda.com/parts/LT1129IS8-3.3%23PBF/Analog%20Devices/view-part/1215396/?ref=eda; Supplier 1: Digi-Key; Link: https://www.digikey.com/en/products/detail/microchip-technology/MIC5209-3-3YM-TR/7916551; Digi_Key_Part_Number: MIC5209-3.3YM-CT-ND; ComponentLink1Description: IC REG LINEAR 3.3V 500MA 8SOIC; ComponentLink1URL: https://www.digikey.com/en/products/detail/microchip-technology/MIC5209-3-3YM-TR/7916551
footprint SO-8_S
pins: 1 OUTPUT (out), 2 SENSE/ADJ, 3 GND_2 (power), 4 NC, 5 *SHDN, 6 GND_3 (power), 7 GND (power), 8 VIN (in)

## REG_LT1528CQ_Lineal
designator U?, comment LT1529IQ-3.3#PBF-ND  value LT1529IQ
PMIC - reguladores de voltaje lineal Positivo Ajuste 1 Salida 3A 5-DDPAK; Digi_Key_Part_Number: LT1529IQ#PBF-ND; Supplier 1: Digi-Key; Supplier Part Number 1: LT1529IQ#PBF-ND; Link: https://www.digikey.com/es/products/detail/LT1529IQ%2523PBF/LT1529IQ%2523PBF-ND/963664?utm_campaign=buynow&utm_medium=aggregator&curr=usd&utm_source=octopart; ComponentLink1Description: IC REG LINEAR 3.3V 3A 5DDPAK; ComponentLink1URL: https://www.digikey.com/es/products/detail/analog-devices-inc/lt1529iq-3-3-pbf/963661
footprint DD PAK
pins: 1 VOUT, 2 Sense, 3 GND, 4 ~{SHDN}, 5 VIN, 6 tab

## REG_MIC29301-5.0WU-TR_LINEAL
designator U?, comment MIC29301-5.0WU-TR
PMIC - reguladores de voltaje lineal Positivo Fija 1 Salida 3A TO-263-5; Mfr_Name: Microchip; Digi_Key_Part_Number: MIC29301-5.0WU-CT-ND; RefDes: RefDes; Type: Type; Link: https://www.digikey.com/es/products/detail/microchip-technology/MIC29301-5-0WU-TR/9450534; ComponentLink1Description: MIC29301-5.0WU-TR; ComponentLink1URL: https://www.digikey.com/es/products/detail/microchip-technology/MIC29301-5-0WU-TR/9450534; Value: MIC29301-5.0WU-TR
footprint TO-263-5-M
pins: 1 EN (in), 2 IN (in), 3 GND (power), 4 OUT (out), 5 FLAG (out), 6

## REG_MIC29302AWD
designator IC?, comment MIC29302AWD
PMIC - reguladores de voltaje lineal Positivo Ajuste 1 Salida 3A TO-252-5; Manufacturer_Name: Microchip; Digi_Key_Part_Number: 576-4058-5-ND; Datasheet Link: http://www.microchip.com/mymicrochip/filehandler.aspx?ddocname=en580808; Height: 2.451mm; Manufacturer_Part_Number: MIC29302AWD; Mouser Part Number: 998-MIC29302AWD; Mouser Price/Stock: https://www.mouser.co.uk/ProductDetail/Microchip-Technology/MIC29302AWD?qs=kh6iOki%2FeLHCfDEMcJUwRg%3D%3D; Arrow Part Number: MIC29302AWD; Arrow Price/Stock: https://www.arrow.com/en/products/mic29302awd/microchip-technology?region=nac; ComponentLink1Description: MIC29302AWD; ComponentLink1URL: https://www.digikey.com/es/products/detail/microchip-technology/MIC29302AWD/3654290; Link: https://www.digikey.com/es/products/detail/microchip-technology/MIC29302AWD/3654290; Value: MIC29302AWD
footprint MIC29302AWD
pins: 1 EN, 2 IN, 3 GND, 4 OUT, 5 ADJ, 6 TAB

## REG_TL1963A-33DCYR_3.3V_Lineal
designator U?, comment 296-24897-1-ND  (value not drawn)
Linear Voltage Regulator IC Positive Fixed 1 Output 1.5A SOT-223-4; MP: TL1963A-33DCYR; Value: *; Availability: Unavailable; Package: None; Price: None; ComponentLink1Description: IC REG LINEAR 3.3V 1.5A SOT223-4; ComponentLink1URL: https://www.digikey.com/en/products/detail/texas-instruments/TL1963A-33DCYR/2118656?s=N4IgTCBcDaICoBkCMBOAbAZgIIFoMYBEBhATQCUQBdAXyA; Digi_Key_Part_Number: 296-24897-1-ND; Link: https://www.digikey.com/en/products/detail/texas-instruments/TL1963A-33DCYR/2118656?s=N4IgTCBcDaICoBkCMBOAbAZgIIFoMYBEBhATQCUQBdAXyA
footprint VREG_TL1963A-33DCYR
pins: 1 IN (in), 2 GND_2 (power), 3 OUT (out), 4 GND_4 (power)

## REG_TL2575-3.3V
designator U?, comment Supplier Part Number 1: MIC4575-3.3WU-TR-ND  Supplier Part Number 2: LM2575HVS-3.3/NOPB-ND  (hidden comment: 296-21828-1-ND)
Buck, Buck-Boost Switching Regulator IC Positive Fixed 3.3V 1 Output 1.7A (Switch) TO-263-6, D²Pak (5 Leads + Tab), TO-263BA; Manufacturer_Part_Number: MIC4575-5.0WU-TR; Manufacturer: Microchip Micrel; Vendor: Microchip; Built_By: EMA_Jessica; Output Voltage: 5V; Max Output Current: 1A; Number of Outputs: 1; Efficiency: 77%; Min Input Voltage: 4V; Max Input Voltage: 24V; Switching Frequency: 200kHz; Synchronous Rectifier: No; Copyright: Copyright (C) 2018 Accelerated Designs. All rights reserved; RefDes: RefDes; Type: DEV; Value: Value; Manufacturer Part Number: MIC4575-5.0WU-TR; Mount: Surface Mount; Case/Package: TO-263-5; Min Operating Temperature: -40°C; Max Operating Temperature: 85°C; Packaging: Tape and Reel; Package Quantity: 750; Output Current: 1.7A; Min Output Voltage: 5V; Topology: Buck-Boost; Output Type: Fixed; Output Configuration: Positive; Lead Free: Lead Free; Supplier 1: Digi-Key; Supplier 2: Digi-Key; ComponentLink1Description: IC REG BUCK 3.3V 1A DDPAK; ComponentLink1URL: https://www.digikey.com/en/products/detail/texas-instruments/TL2575-33IKTTR/1629209; Digi_Key_Part_Number: 296-21828-1-ND; Link: https://www.digikey.com/en/products/detail/texas-instruments/TL2575-33IKTTR/1629209
footprint TO-263-5-M
pins: 1 VIN (in), 2 SW (out), 3 GND (power), 4 FB (in), 5 SHDN, 6

## REG_TLV75533PDBVR_3.3V
designator U?, comment TLV75533PDBVR  (value not drawn)
Linear Voltage Regulator IC Positive Fixed 1 Output 500mA SOT-23-5; Digi_Key_Part_Number: 296-50411-1-ND; Value: TLV75533PDBVR; ComponentLink1Description: IC REG LINEAR 3.3V 500MA SOT23-5; ComponentLink1URL: https://www.digikey.com/en/products/detail/texas-instruments/TLV75533PDBVR/9356541; Link: https://www.digikey.com/en/products/detail/texas-instruments/TLV75533PDBVR/9356541; Price: 0,32; Price JLCPCB: 0,11; Mouser Part: 595-TLV75533PDBVR; LCSC Part: C723789
footprint SOT95P280X145-5N
pins: 1 IN (in), 2 GND (power), 3 EN (in), 5 OUT (out)

## RELAY-5V-1A-10MM-UA2-5NU
designator K?, comment value UA2-5NU  (hidden comment: UA2-5SNU)
General Purpose Relay DPDT (2 Form C) Through Hole; Digi_Key_Part_Number: UA2-5NU-ND; Price: 2,03; Link: https://www.digikey.com/en/products/detail/kemet/UA2-5NU/5502071?s=N4IgTCBcDaIAQFUCCYC0BWAcgkBdAvkA; ComponentLink1Description: RELAY GENERAL PURPOSE DPDT 1A 5V; ComponentLink1URL: https://www.digikey.com/en/products/detail/kemet/UA2-5NU/5502071?s=N4IgTCBcDaIAQFUCCYC0BWAcgkBdAvkA
footprint RELAY_KEMET_UA2
pins: 1 COIL1, 2 NC1, 3 COM1, 4 NO1, 5 NO2, 6 COM2, 7 NC2, 8 COIL2

## RelAY-DPDT-TIPO-C-2A-12V-LITTLE
designator U?, comment AGQ20012
Telecomunicaciones Relé DPDT (2 Forma C) Orificio pasante; Mfr_Name: Panasonic; Digi_Key_Part_Number: 255-1358-5-ND; RefDes: RefDes; Type: Type; ComponentLink1Description: RELAY TELECOM DPDT 2A 12V; ComponentLink1URL: https://www.digikey.com/es/products/detail/panasonic-electric-works/AGQ20012/510127; Link: https://www.digikey.com/es/products/detail/panasonic-electric-works/AGQ20012/510127; Price: 1,91; Value: AGQ20012
footprint RELAY_AGQ_PAN
pins: 1, 2 5, 3, 4, 5 3, 6, 7 8, 8 2

## Relay-DPDT_8A_12V
designator K?, comment value 7-1415538-8  (hidden comment: PB2015-ND)
Relé Propósito general DPDT (2 Forma C) 12 VCC Espiral Orificio pasante Relé Propósito general DPDT (2 Forma C) Orificio pasante; Manufacturer: TE Connectivity; Voltage Rating (AC): 400V; Contact Current Rating: 8A; Coil Resistance: 360R; Coil Power: 400mW; Coil Current: 33.3mA; Operate Time: 8ms; Dropout Voltage: 1.2V; Coil Voltage (DC): 12V; Contact Voltage Rating (AC): 250V; Approvals: UL,CSA,VDE; Published: 24-Mar-1999; LatestRevisionDate: 17-Jul-2002; LatestRevisionNote: Re-released for DXP Platform.; PackageReference: DIP-P8; Publisher: Altium Limited; PackageDescription: Relay; 8 Leads; Supplier 1: Digi-Key; Manufacturer Part Number: 7-1415538-8; Stock 1: 10430; Pricing 1: 1=4.01, 10=3.758, 25=3.34, 50=3.173, 100=3.006, 250=2.672, 500=2.505, 1000=2.338 (USD); Mount: PCB,Through Hole; Case/Package: DIP; Number of Pins: 8; Weight: 13g; Contact Material: Silver; Min Operating Temperature: -40°C; Max Operating Temperature: 85°C; Max Voltage Rating (AC): 400V; Packaging: Carton; Termination: PCB; Throw Configuration: DPDT; Current Rating: 8A; Voltage Rating (DC): 12V; Length: 29mm; Height: 15.7mm; Depth: 12.7mm; Width: 12.7mm; Radiation Hardening: No; ELV: Compliant; ComponentLink1Description: RELAY GEN PURPOSE DPDT 8A 12V; ComponentLink1URL: https://www.digikey.com/es/products/detail/7-1415538-8/PB2015-ND/4959322?utm_campaign=buynow&utm_medium=aggregator&curr=usd&utm_source=octopart; Digi_Key_Part_Number: PB2015-ND; Link: https://www.digikey.com/es/products/detail/7-1415538-8/PB2015-ND/4959322?utm_campaign=buynow&utm_medium=aggregator&curr=usd&utm_source=octopart; Supplier Part Number 1: PB2015-ND; Price: 5,05
footprint RELAY_G5V-2
pins: 11 CC, 12 NC, 14 NA, 21 CC, 22 NC, 24 NA, A1 "A1", A2 "A2"

## Relay_10mm_2A_little
designator K?, comment 6-1462037-6  (value not drawn)
RELAY TELECOM DPDT 2A 12VDC; Mfr_Name: TE Connectivity; Digi_Key_Part_Number: PB2085-ND; Copyright: Copyright (C) 2022 Ultra Librarian. All rights reserved.; Manufacturer_Part_Number: 6-1462037-6; RefDes: RefDes; Type: DEV; Supplier 1: Digi-Key; Supplier 2: Digi-Key; Link: https://www.digikey.com/es/products/detail/te-connectivity-potter-brumfield-relays/6-1462037-6/2398972?s=N4IgTCBcDaIAoCEwAYAcBWAtAOQCIgF0BfIA; ComponentLink1Description: RELAY TELECOM DPDT 2A 12V; ComponentLink1URL: https://www.digikey.com/es/products/detail/te-connectivity-potter-brumfield-relays/6-1462037-6/2398972?s=N4IgTCBcDaIGwFoCMAWOYAMBmA7AuIAugL5A; Supplier Part Number 1: 6-1462037-6-ND; Supplier Part Number 2: PB2081-ND; Value: 6-1462037-6; Price: 3,28
footprint RELAY8_THTSTD_TEC -little
pins: 1, 2, 3, 4, 5, 6, 7, 8

## Relay_TX2-12V
designator U?, comment TX2-12V
Telecomunicaciones Relé DPDT (2 Forma C) Orificio pasante; Mfr_Name: Panasonic; Digi_Key_Part_Number: 255-1032-5-ND; RefDes: RefDes; Type: Type; Link: https://www.digikey.com/es/products/detail/panasonic-electric-works/TX2-12V/251804; Price: 2,04; ComponentLink1Description: RELAY TELECOM DPDT 2A 12V; ComponentLink1URL: https://www.digikey.com/es/products/detail/panasonic-electric-works/TX2-12V/251804; Value: TX2-12V
footprint RELAY_TX2_PAN
pins: 1, 3, 4, 5, 8, 9, 10, 12

## Res1_00_0805
designator R?, comment value 0  (hidden comment: NRC10ZOTRF)
0 Ohms Puente 0.125W, 1/8W Resistencia en microprocesador 0805 (2012 métrico) AEC-Q200 automotriz Película gruesa; Digi_Key_Part_Number: 4988-NRC10ZOTRFCT-ND; Link: https://www.digikey.com/es/products/detail/nic-components-corp/NRC10ZOTRF/18895961; Price: 0,10; ComponentLink1Description: 0 Ohms Puente 0.125W, 1/8W RES SMT08050M2A; ComponentLink1URL: https://www.digikey.com/es/products/detail/nic-components-corp/NRC10ZOTRF/18895961; LCSC Part: C17477; Mouser Part: 303-0805W8F0000T5E; Price JLCPCB: 0,01
footprint RES0805
pins: 1, 2

## Res1_00_PUENTE
designator R?, comment RMCF1206ZT0R00CT-ND  value 00
RES 0 OH0 Ohms Puente Resistencia en microprocesador 1206 (3216 métrico) AEC-Q200 automotriz Película gruesaM JUMPER 1/4W 1206; Manufacturer: Panasonic; Manufacturer Part Number: ERJ-8ENF5232V; Resistance: 52.3kR; Tolerance: 1%; Power Rating: 250mW; Voltage Rating: 200V; Temperature Coefficient: 100ppm/°C; Published: 8-Jun-2000; LatestRevisionDate: 17-Jul-2002; LatestRevisionNote: Re-released for DXP Platform.; PackageReference: AXIAL-0.3; Publisher: Altium Limited; PackageDescription: Axial Device, Thru-Hole; 2 Leads; 0.3 in Pin Spacing; Mount: Surface Mount; Case/Package: 1206; Case Code (Imperial): 1206; Case Code (Metric): 3216; Contact Plating: Tin; Min Operating Temperature: -55°C; Max Operating Temperature: 155°C; Packaging: Tape and Reel; Package Quantity: 1; Composition: Thick Film; Number of Terminations: 2; Max Power Dissipation: 250mW; Voltage Rating (DC): 200V; Features: Automotive AEC-Q200; Military Standard: Not; Termination: SMD/SMT; Length: 3.2mm; Height: 0.028inch; Width: 1.6mm; Depth: 1.6mm; REACH SVHC: Yes; ComponentLink1URL: http://www.farnell.com/datasheets/1678782.pdf?src-supplier=Farnell; ComponentLink1Description: http://www.farnell.com/datasheets/1678782.pdf?src-supplier=Farnell; ComponentLink2URL: http://industrial.panasonic.com/www-data/pdf/AOA0000/AOA0000CE2.pdf?src-supplier=Mouser; ComponentLink2Description: http://industrial.panasonic.com/www-data/pdf/AOA0000/AOA0000CE2.pdf?src-supplier=Mouser; Supplier 1: Digi-Key; Digi_Key_Part_Number: RMCF1206ZT0R00CT-ND; Link: https://www.digikey.com/es/products/detail/RMCF1206ZT0R00/RMCF1206ZT0R00DKR-ND/1943741?utm_campaign=buynow&utm_medium=aggregator&curr=usd&utm_source=octopart; ComponentLink3Description: RES 0 OHM JUMPER 1/4W 1206; ComponentLink3URL: https://www.digikey.com/es/products/detail/RMCF1206ZT0R00/RMCF1206ZT0R00DKR-ND/1943741?utm_campaign=buynow&utm_medium=aggregator&curr=usd&utm_source=octopart; Price: 0,10; Supplier Part Number 1: RMCF1206ZT0R00DKR-ND
footprint RES1206
pins: 1, 2